# EAGLE library part XC3S200VQ100 (library SpectroLib)
Xilinx FPGA
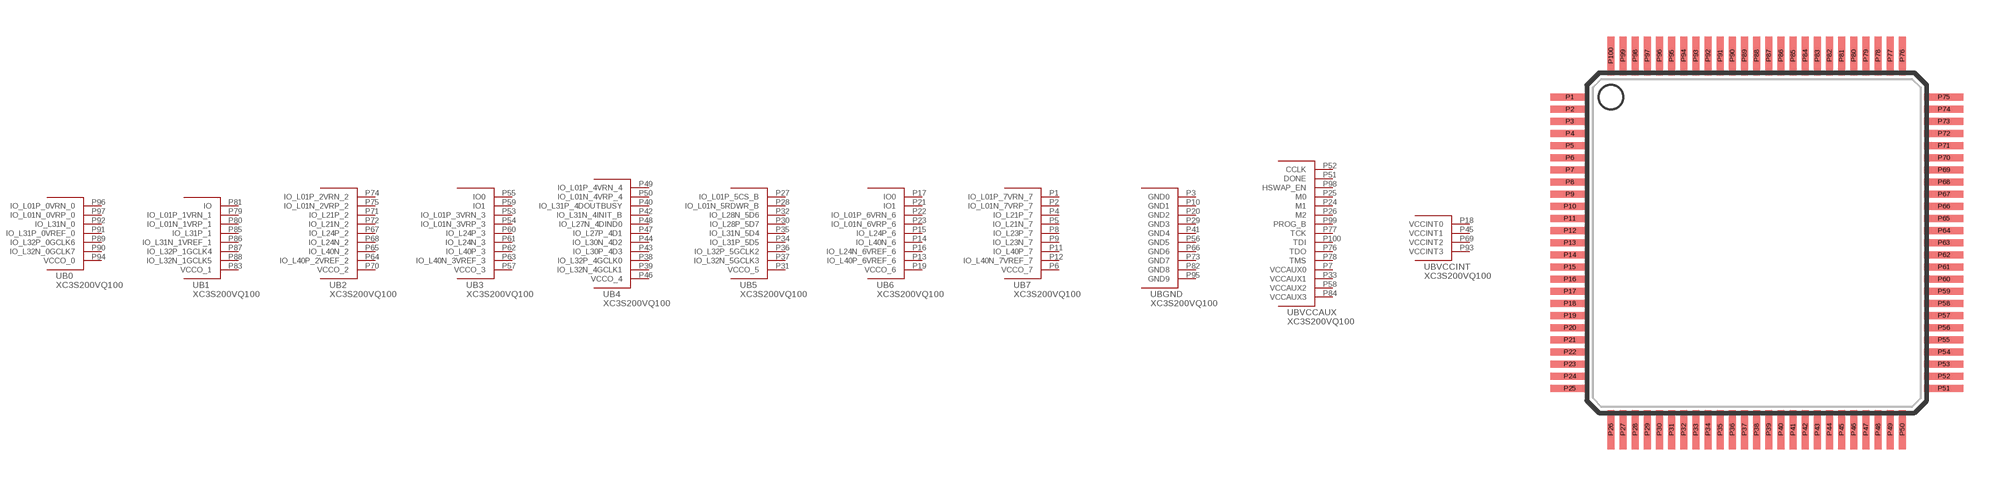
[diagram p0: symbol with the pads of VQ100; footprint VQ100]

Designator prefix U; gates B0=XC3S200VQ100_0 B1=XC3S200VQ100_1 B2=XC3S200VQ100_2 B3=XC3S200VQ100_3 B4=XC3S200VQ100_4 B5=XC3S200VQ100_5 B6=XC3S200VQ100_6 B7=XC3S200VQ100_7 BGND=XC3S200VQ100_GND BVCCAUX=XC3S200VQ100_VCCAUX BVCCINT=XC3S200VQ100_VCCINT

## XC3S200VQ100  [VQ100]
P1  B7:IO_L01P_7VRN_7
P2  B7:IO_L01N_7VRP_7
P3  BGND:GND0  pas
P4  B7:IO_L21P_7
P5  B7:IO_L21N_7
P6  B7:VCCO_7  pas
P7  BVCCAUX:VCCAUX0  pas
P8  B7:IO_L23P_7
P9  B7:IO_L23N_7
P10  BGND:GND1  pas
P11  B7:IO_L40P_7
P12  B7:IO_L40N_7VREF_7
P13  B6:IO_L40P_6VREF_6
P14  B6:IO_L40N_6
P15  B6:IO_L24P_6
P16  B6:IO_L24N_6VREF_6
P17  B6:IO0
P18  BVCCINT:VCCINT0  pas
P19  B6:VCCO_6  pas
P20  BGND:GND2  pas
P21  B6:IO1
P22  B6:IO_L01P_6VRN_6
P23  B6:IO_L01N_6VRP_6
P24  BVCCAUX:M1
P25  BVCCAUX:M0
P26  BVCCAUX:M2
P27  B5:IO_L01P_5CS_B
P28  B5:IO_L01N_5RDWR_B
P29  BGND:GND3  pas
P30  B5:IO_L28P_5D7
P31  B5:VCCO_5  pas
P32  B5:IO_L28N_5D6
P33  BVCCAUX:VCCAUX1  pas
P34  B5:IO_L31P_5D5
P35  B5:IO_L31N_5D4
P36  B5:IO_L32P_5GCLK2
P37  B5:IO_L32N_5GCLK3
P38  B4:IO_L32P_4GCLK0
P39  B4:IO_L32N_4GCLK1
P40  B4:IO_L31P_4DOUTBUSY
P41  BGND:GND4  pas
P42  B4:IO_L31N_4INIT_B
P43  B4:IO_L30P_4D3
P44  B4:IO_L30N_4D2
P45  BVCCINT:VCCINT1  pas
P46  B4:VCCO_4  pas
P47  B4:IO_L27P_4D1
P48  B4:IO_L27N_4DIND0
P49  B4:IO_L01P_4VRN_4
P50  B4:IO_L01N_4VRP_4
P51  BVCCAUX:DONE
P52  BVCCAUX:CCLK
P53  B3:IO_L01P_3VRN_3
P54  B3:IO_L01N_3VRP_3
P55  B3:IO0
P56  BGND:GND5  pas
P57  B3:VCCO_3  pas
P58  BVCCAUX:VCCAUX2  pas
P59  B3:IO1
P60  B3:IO_L24P_3
P61  B3:IO_L24N_3
P62  B3:IO_L40P_3
P63  B3:IO_L40N_3VREF_3
P64  B2:IO_L40P_2VREF_2
P65  B2:IO_L40N_2
P66  BGND:GND6  pas
P67  B2:IO_L24P_2
P68  B2:IO_L24N_2
P69  BVCCINT:VCCINT2  pas
P70  B2:VCCO_2  pas
P71  B2:IO_L21P_2
P72  B2:IO_L21N_2
P73  BGND:GND7  pas
P74  B2:IO_L01P_2VRN_2
P75  B2:IO_L01N_2VRP_2
P76  BVCCAUX:TDO
P77  BVCCAUX:TCK
P78  BVCCAUX:TMS
P79  B1:IO_L01P_1VRN_1
P80  B1:IO_L01N_1VRP_1
P81  B1:IO
P82  BGND:GND8  pas
P83  B1:VCCO_1  pas
P84  BVCCAUX:VCCAUX3  pas
P85  B1:IO_L31P_1
P86  B1:IO_L31N_1VREF_1
P87  B1:IO_L32P_1GCLK4
P88  B1:IO_L32N_1GCLK5
P89  B0:IO_L32P_0GCLK6
P90  B0:IO_L32N_0GCLK7
P91  B0:IO_L31P_0VREF_0
P92  B0:IO_L31N_0
P93  BVCCINT:VCCINT3  pas
P94  B0:VCCO_0  pas
P95  BGND:GND9  pas
P96  B0:IO_L01P_0VRN_0
P97  B0:IO_L01N_0VRP_0
P98  BVCCAUX:HSWAP_EN
P99  BVCCAUX:PROG_B
P100  BVCCAUX:TDI

## Footprint VQ100 (pad centres in mm)
smd 1.6 x 0.3: P1 -7.7,6; P2 -7.7,5.5; P3 -7.7,5; P4 -7.7,4.5; P5 -7.7,4; P6 -7.7,3.5; P7 -7.7,3; P8 -7.7,2.5; P9 -7.7,2; P10 -7.7,1.5; P11 -7.7,1; P12 -7.7,0.5; P13 -7.7,0; P14 -7.7,-0.5; P15 -7.7,-1; P16 -7.7,-1.5; P17 -7.7,-2; P18 -7.7,-2.5; P19 -7.7,-3; P20 -7.7,-3.5; P21 -7.7,-4; P22 -7.7,-4.5; P23 -7.7,-5; P24 -7.7,-5.5; P25 -7.7,-6; P51 7.7,-6; P52 7.7,-5.5; P53 7.7,-5; P54 7.7,-4.5; P55 7.7,-4; P56 7.7,-3.5; P57 7.7,-3; P58 7.7,-2.5; P59 7.7,-2; P60 7.7,-1.5; P61 7.7,-1; P62 7.7,-0.5; P63 7.7,0; P64 7.7,0.5; P65 7.7,1; P66 7.7,1.5; P67 7.7,2; P68 7.7,2.5; P69 7.7,3; P70 7.7,3.5; P71 7.7,4; P72 7.7,4.5; P73 7.7,5; P74 7.7,5.5; P75 7.7,6
smd 0.3 x 1.6: P26 -6,-7.7; P27 -5.5,-7.7; P28 -5,-7.7; P29 -4.5,-7.7; P30 -4,-7.7; P31 -3.5,-7.7; P32 -3,-7.7; P33 -2.5,-7.7; P34 -2,-7.7; P35 -1.5,-7.7; P36 -1,-7.7; P37 -0.5,-7.7; P38 0,-7.7; P39 0.5,-7.7; P40 1,-7.7; P41 1.5,-7.7; P42 2,-7.7; P43 2.5,-7.7; P44 3,-7.7; P45 3.5,-7.7; P46 4,-7.7; P47 4.5,-7.7; P48 5,-7.7; P49 5.5,-7.7; P50 6,-7.7; P76 6,7.7; P77 5.5,7.7; P78 5,7.7; P79 4.5,7.7; P80 4,7.7; P81 3.5,7.7; P82 3,7.7; P83 2.5,7.7; P84 2,7.7; P85 1.5,7.7; P86 1,7.7; P87 0.5,7.7; P88 0,7.7; P89 -0.5,7.7; P90 -1,7.7; P91 -1.5,7.7; P92 -2,7.7; P93 -2.5,7.7; P94 -3,7.7; P95 -3.5,7.7; P96 -4,7.7; P97 -4.5,7.7; P98 -5,7.7; P99 -5.5,7.7; P100 -6,7.7